# Altium schematic symbol library Devindia_v2.0.SchLib: 109 symbols
Pins are listed as number, name and electrical type; pins without a type are passive.

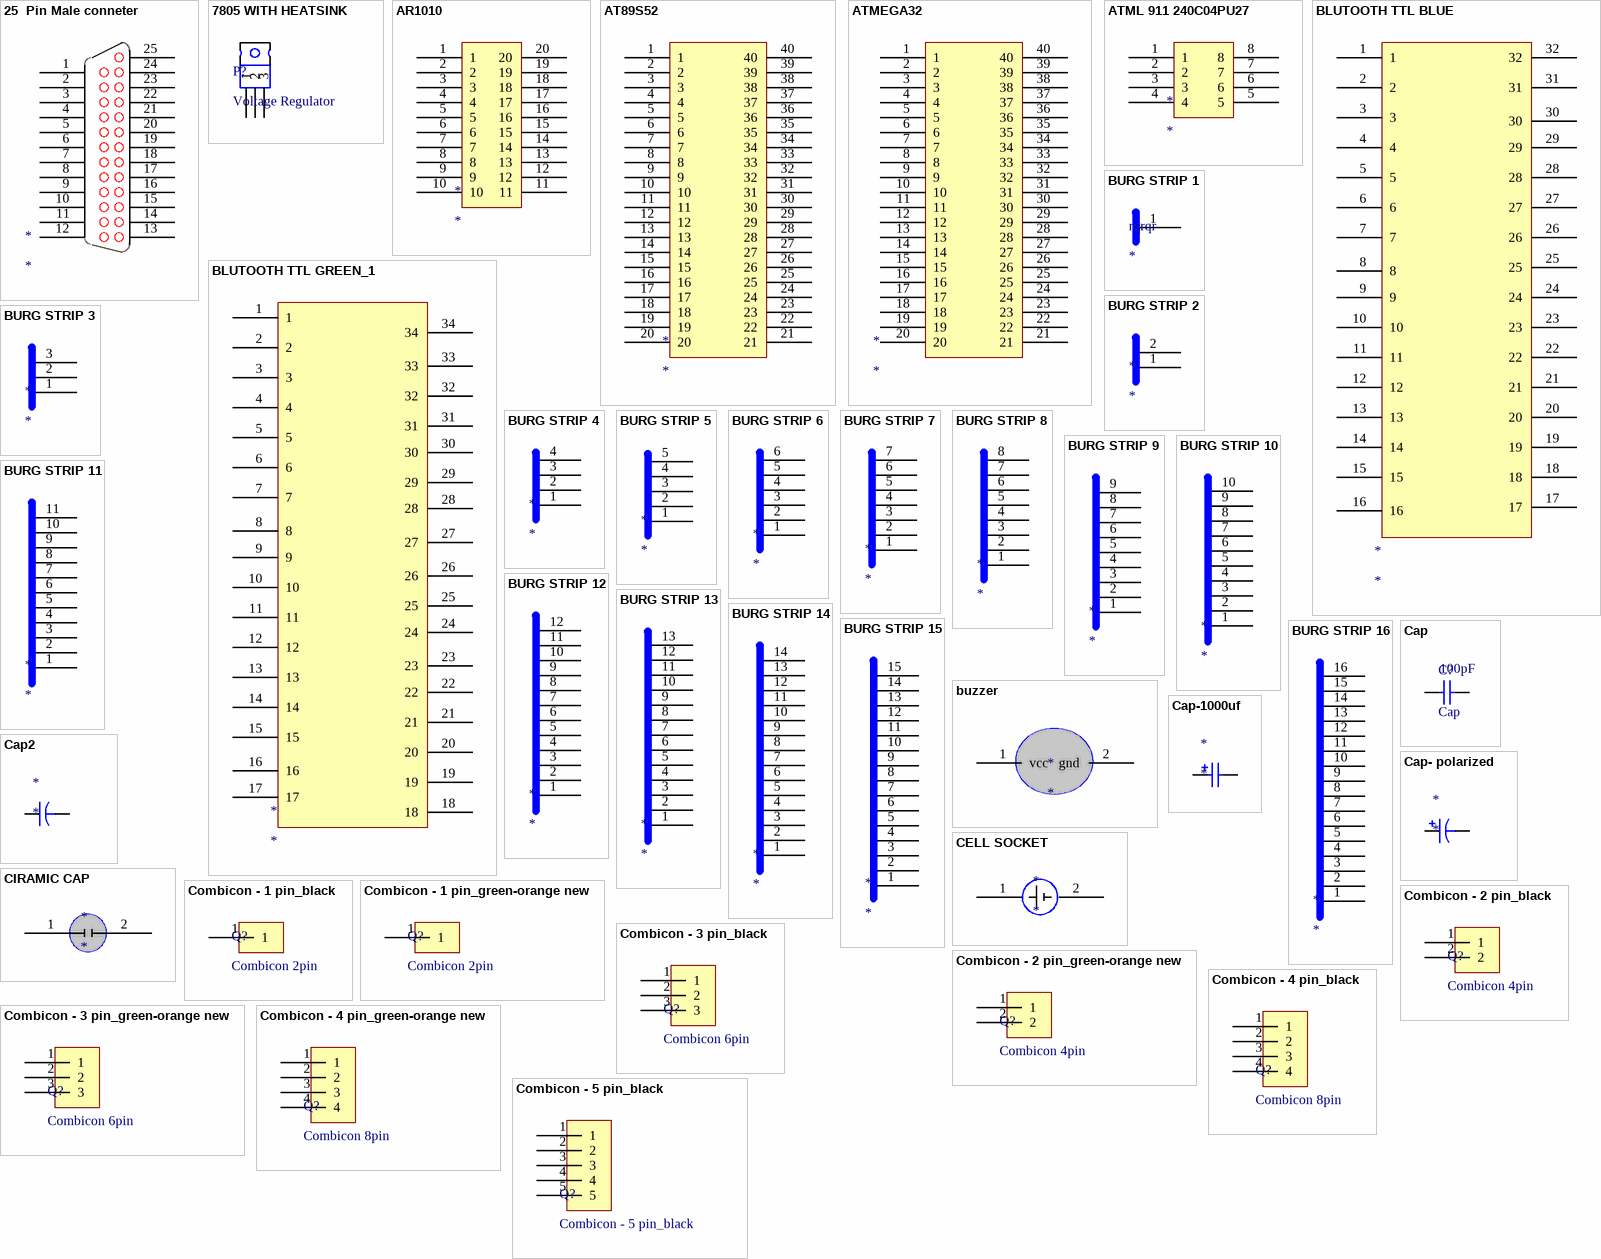
[diagram p0: symbols 25  Pin Male conneter to Combicon - 5 pin_black]

## 25  Pin Male conneter
designator *
pins: 1, 2, 3, 4, 5, 6, 7, 8, 9, 10, 11, 12, 13, 14, 15, 16, 17, 18, 19, 20, 21, 22, 23, 24, 25

## 7805 WITH HEATSINK
designator P?, comment Voltage Regulator
footprint 7805 WITH HEAT-SINK
pins: 1, 2, 3

## AR1010
designator *
footprint AR1010
pins: 1, 2, 3, 4, 5, 6, 7, 8, 9, 10, 11, 12, 13, 14, 15, 16, 17, 18, 19, 20

## AT89S52
designator *
footprint AT89S52
pins: 1, 2, 3, 4, 5, 6, 7, 8, 9, 10, 11, 12, 13, 14, 15, 16, 17, 18, 19, 20, 21, 22, 23, 24, 25, 26, 27, 28, 29, 30, 31, 32, 33, 34, 35, 36, 37, 38, 39, 40

## ATMEGA32
designator *
footprint ATMEGA32
pins: 1, 2, 3, 4, 5, 6, 7, 8, 9, 10, 11, 12, 13, 14, 15, 16, 17, 18, 19, 20, 21, 22, 23, 24, 25, 26, 27, 28, 29, 30, 31, 32, 33, 34, 35, 36, 37, 38, 39, 40

## ATML 911 240C04PU27
designator *
footprint dip-8pin
pins: 1, 2, 3, 4, 5, 6, 7, 8

## BLUTOOTH TTL BLUE
designator *
footprint BLUETOOTH TTL BULE
pins: 1, 2, 3, 4, 5, 6, 7, 8, 9, 10, 11, 12, 13, 14, 15, 16, 17, 18, 19, 20, 21, 22, 23, 24, 25, 26, 27, 28, 29, 30, 31, 32

## BLUTOOTH TTL GREEN_1
designator *
footprint bluetooth ttl green
pins: 1, 2, 3, 4, 5, 6, 7, 8, 9, 10, 11, 12, 13, 14, 15, 16, 17, 18, 19, 20, 21, 22, 23, 24, 25, 26, 27, 28, 29, 30, 31, 32, 33, 34

## BURG STRIP 1
designator rqrqr
footprint BURG STRIP 1
pins: 1

## BURG STRIP 2
designator *
footprint bergstrip-2pin
pins: 1, 2

## BURG STRIP 3
designator *
footprint bergstrip-3pin
pins: 1, 2, 3

## BURG STRIP 4
designator *
footprint bergstrip-4pin
pins: 1, 2, 3, 4

## BURG STRIP 5
designator *
footprint bergstrip-5pin
pins: 1, 2, 3, 4, 5

## BURG STRIP 6
designator *
footprint bergstrip-6pin
pins: 1, 2, 3, 4, 5, 6

## BURG STRIP 7
designator *
footprint bergstrip-7pin
pins: 1, 2, 3, 4, 5, 6, 7

## BURG STRIP 8
designator *
footprint bergstrip-8pin
pins: 1, 2, 3, 4, 5, 6, 7, 8

## BURG STRIP 9
designator *
footprint bergstrip-9pin
pins: 1, 2, 3, 4, 5, 6, 7, 8, 9

## BURG STRIP 10
designator *
footprint bergstrip-10pin
pins: 1, 2, 3, 4, 5, 6, 7, 8, 9, 10

## BURG STRIP 11
designator *
footprint bergstrip-11pin
pins: 1, 2, 3, 4, 5, 6, 7, 8, 9, 10, 11

## BURG STRIP 12
designator *
footprint bergstrip-12pin
pins: 1, 2, 3, 4, 5, 6, 7, 8, 9, 10, 11, 12

## BURG STRIP 13
designator *
footprint bergstrip-13pin
pins: 1, 2, 3, 4, 5, 6, 7, 8, 9, 10, 11, 12, 13

## BURG STRIP 14
designator *
footprint bergstrip-14pin
pins: 1, 2, 3, 4, 5, 6, 7, 8, 9, 10, 11, 12, 13, 14

## BURG STRIP 15
designator *
footprint bergstrip-15pin
pins: 1, 2, 3, 4, 5, 6, 7, 8, 9, 10, 11, 12, 13, 14, 15

## BURG STRIP 16
designator *
footprint bergstrip-16pin
pins: 1, 2, 3, 4, 5, 6, 7, 8, 9, 10, 11, 12, 13, 14, 15, 16

## buzzer
designator *
footprint buzzer
pins: 1 vcc, 2 gnd

## Cap
designator C?  value 100pF
Capacitor; Published: 8-Jun-2000; LatestRevisionDate: 17-Jul-2002; LatestRevisionNote: Re-released for DXP Platform.; PackageReference: RAD-0.3; Publisher: Altium Limited
simulation model CAP (Capacitor)
signal-integrity model Cap
footprint CAP
pins: 1, 2

## Cap2
designator *
footprint CAP-100uf
pins: 1, 2

## Cap-1000uf
designator *
footprint CAP-1000uf
pins: 1, 2

## Cap- polarized
designator *
footprint CAP-ELECTROLITE
pins: 1, 2

## CELL SOCKET
designator *
footprint CELL SOCKET
pins: 1, 2

## CIRAMIC CAP
designator *
footprint ciramic cap
pins: 1, 2

## Combicon - 1 pin_black
designator Q?, comment Combicon 2pin
footprint combicon-1pin_black
pins: 1

## Combicon - 1 pin_green-orange new
designator Q?, comment Combicon 2pin
footprint Combicon - 1 pin_green-orange
pins: 1

## Combicon - 2 pin_black
designator Q?, comment Combicon 4pin
footprint combicon-2pin_black
pins: 1, 2

## Combicon - 2 pin_green-orange new
designator Q?, comment Combicon 4pin
footprint Combicon - 2 pin_green-orange
pins: 1, 2

## Combicon - 3 pin_black
designator Q?, comment Combicon 6pin
footprint combicon-3pin_black
pins: 1, 2, 3

## Combicon - 3 pin_green-orange new
designator Q?, comment Combicon 6pin
footprint Combicon - 3 pin_green-orange
pins: 1, 2, 3

## Combicon - 4 pin_black
designator Q?, comment Combicon 8pin
footprint combicon-4pin_black
pins: 1, 2, 3, 4

## Combicon - 4 pin_green-orange new
designator Q?, comment Combicon 8pin
footprint Combicon - 4 pin_green-orange
pins: 1, 2, 3, 4

## Combicon - 5 pin_black
designator Q?
footprint combicon-5pin_black
pins: 1, 2, 3, 4, 5

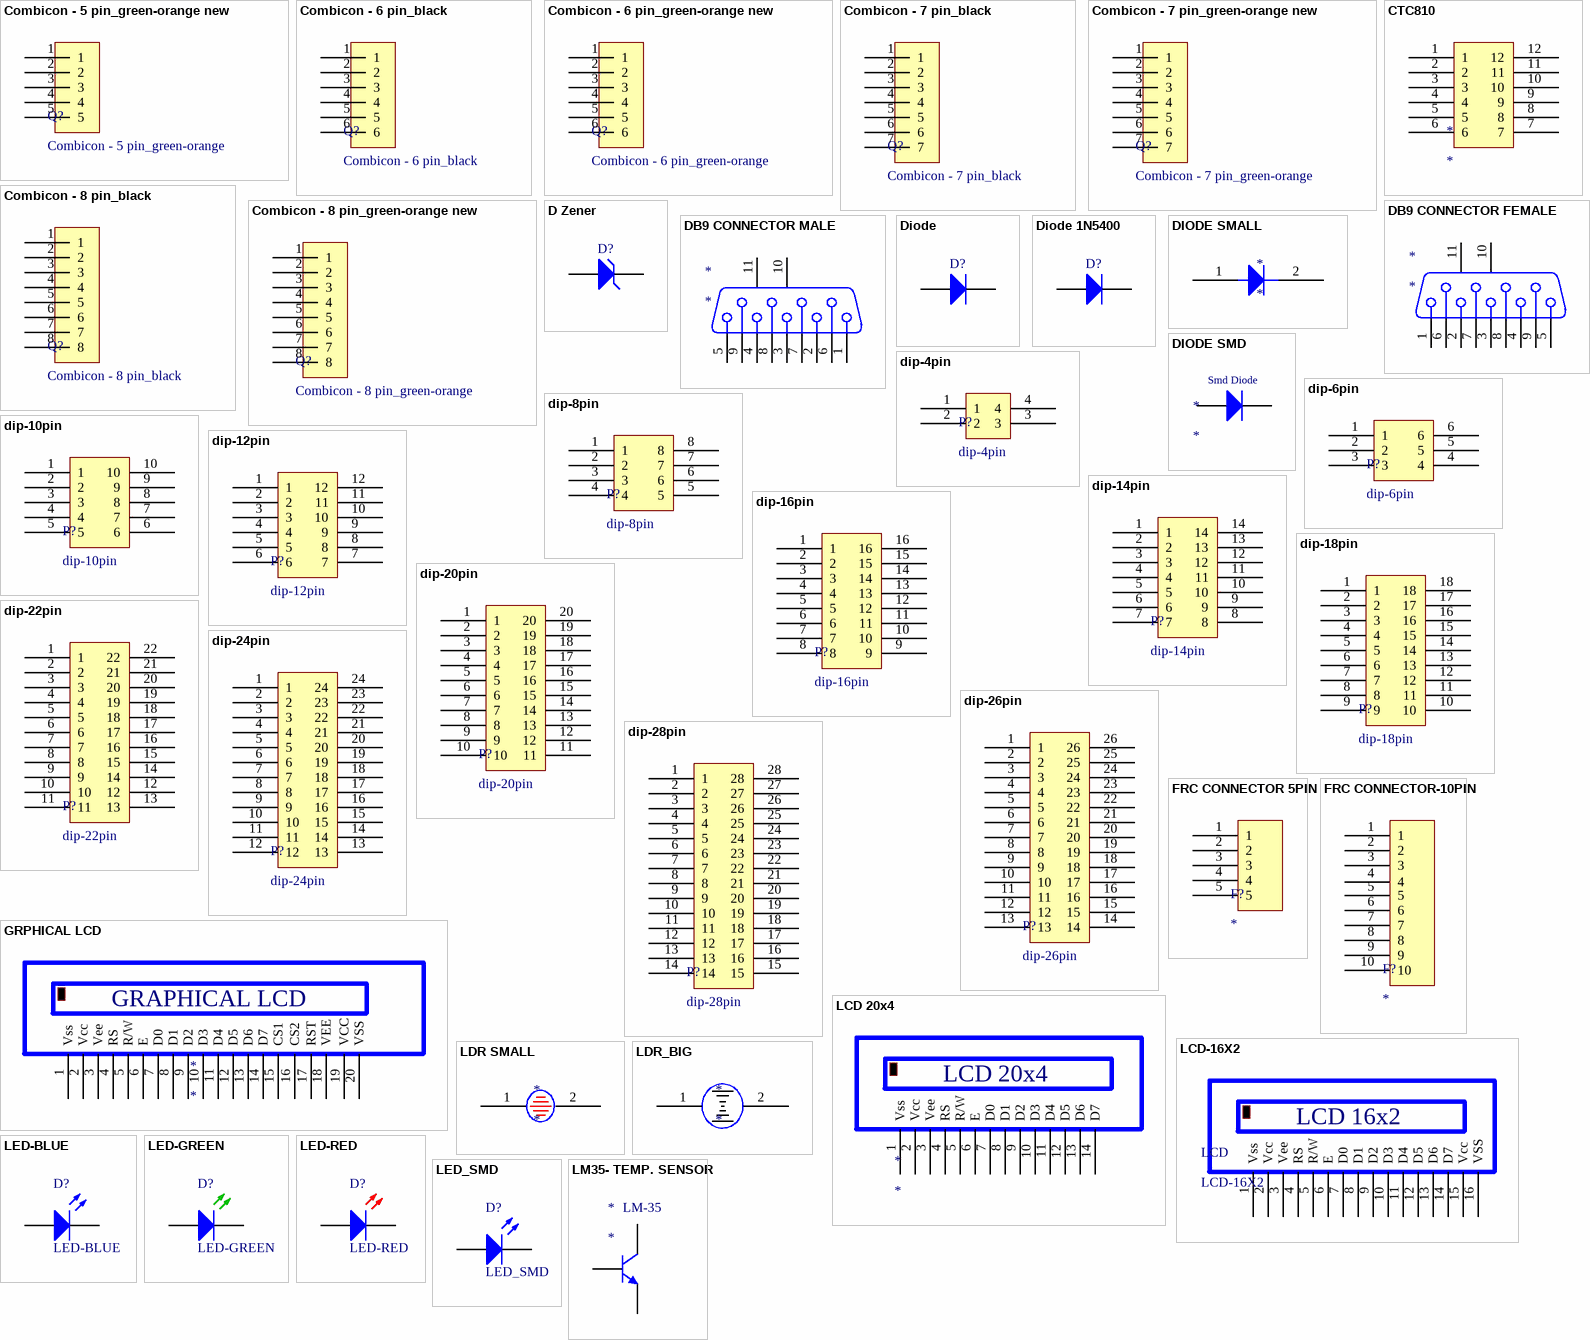
[diagram p1: symbols Combicon - 5 pin_green-orange new to LM35- TEMP. SENSOR]

## Combicon - 5 pin_green-orange new
designator Q?, comment Combicon - 5 pin_green-orange
footprint Combicon - 5 pin_green-orange
pins: 1, 2, 3, 4, 5

## Combicon - 6 pin_black
designator Q?
footprint combicon-6pin_black
pins: 1, 2, 3, 4, 5, 6

## Combicon - 6 pin_green-orange new
designator Q?, comment Combicon - 6 pin_green-orange
footprint Combicon - 6 pin_green-orange
pins: 1, 2, 3, 4, 5, 6

## Combicon - 7 pin_black
designator Q?
footprint combicon-7pin_black
pins: 1, 2, 3, 4, 5, 6, 7

## Combicon - 7 pin_green-orange new
designator Q?, comment Combicon - 7 pin_green-orange
footprint Combicon - 7 pin_green-orange
pins: 1, 2, 3, 4, 5, 6, 7

## Combicon - 8 pin_black
designator Q?
footprint combicon-8pin_black
pins: 1, 2, 3, 4, 5, 6, 7, 8

## Combicon - 8 pin_green-orange new
designator Q?, comment Combicon - 8 pin_green-orange
footprint Combicon - 8 pin_green-orange
pins: 1, 2, 3, 4, 5, 6, 7, 8

## CTC810
designator *
footprint dip-12pin
pins: 1, 2, 3, 4, 5, 6, 7, 8, 9, 10, 11, 12

## D Zener
designator D?
Zener Diode; Published: 8-Jun-2000; LatestRevisionDate: 17-Jul-2002; LatestRevisionNote: Re-released for DXP Platform.; PackageReference: DIODE-0.7; Publisher: Altium Limited
footprint D Zener
pins: 1 A, 2 K

## DB9 CONNECTOR FEMALE
designator *
footprint DB9 CONNECTOR FEMALE
pins: 1, 2, 3, 4, 5, 6, 7, 8, 9, 10 MH1, 11 MH2

## DB9 CONNECTOR MALE
designator *
footprint DB9 CONNECTOR MALE
pins: 1, 2, 3, 4, 5, 6, 7, 8, 9, 10 MH1, 11 MH2

## Diode
designator D?
Default Diode; Published: 8-Jun-2000; LatestRevisionDate: 17-Jul-2002; LatestRevisionNote: Re-released for DXP Platform.; PackageVersion: Sep-1996; PackageReference: SMC; Publisher: Altium Limited; Code_JEDEC: DO-214-AB
footprint DIODE
pins: 1 A, 2 K

## Diode 1N5400
designator D?
3 Amp General Purpose Rectifier; Published: 8-Jun-2000; LatestRevisionDate: 17-Jul-2002; LatestRevisionNote: Re-released for DXP Platform.; DatasheetVersion: 1998; PackageVersion: Aug-1999; PackageReference: DO-201AD; Publisher: Altium Limited; ComponentLink1Description: Manufacturer Link; ComponentLink1URL: http://www.fairchildsemi.com/; ComponentLink2Description: Datasheet; ComponentLink2URL: http://www.fairchildsemi.com/ds/1N%2F1N5400.pdf
simulation model 1N5400 (DIODE)
signal-integrity model 1N5400
footprint diode small
pins: 1 A, 2 K

## DIODE SMALL
designator *
footprint diode small
pins: 1, 2 1

## DIODE SMD
designator *
footprint DIODE SMD
pins: 1 A, 2 K
text: Smd Diode

## dip-4pin
designator P?
footprint dip-4pin
pins: 1, 2, 3, 4

## dip-6pin
designator P?
footprint dip-6pin
pins: 1, 2, 3, 4, 5, 6

## dip-8pin
designator P?
footprint dip-8pin
pins: 1, 2, 3, 4, 5, 6, 7, 8

## dip-10pin
designator P?
footprint dip-10pin
pins: 1, 2, 3, 4, 5, 6, 7, 8, 9, 10

## dip-12pin
designator P?
footprint dip-12pin
pins: 1, 2, 3, 4, 5, 6, 7, 8, 9, 10, 11, 12

## dip-14pin
designator P?
footprint dip-14pin
pins: 1, 2, 3, 4, 5, 6, 7, 8, 9, 10, 11, 12, 13, 14

## dip-16pin
designator P?
footprint dip-16pin
pins: 1, 2, 3, 4, 5, 6, 7, 8, 9, 10, 11, 12, 13, 14, 15, 16

## dip-18pin
designator P?
footprint dip-18pin
pins: 1, 2, 3, 4, 5, 6, 7, 8, 9, 10, 11, 12, 13, 14, 15, 16, 17, 18

## dip-20pin
designator P?
footprint dip-20pin
pins: 1, 2, 3, 4, 5, 6, 7, 8, 9, 10, 11, 12, 13, 14, 15, 16, 17, 18, 19, 20

## dip-22pin
designator P?
footprint dip-22pin
pins: 1, 2, 3, 4, 5, 6, 7, 8, 9, 10, 11, 12, 13, 14, 15, 16, 17, 18, 19, 20, 21, 22

## dip-24pin
designator P?
footprint dip-24pin
pins: 1, 2, 3, 4, 5, 6, 7, 8, 9, 10, 11, 12, 13, 14, 15, 16, 17, 18, 19, 20, 21, 22, 23, 24

## dip-26pin
designator P?
footprint dip-26pin
pins: 1, 2, 3, 4, 5, 6, 7, 8, 9, 10, 11, 12, 13, 14, 15, 16, 17, 18, 19, 20, 21, 22, 23, 24, 25, 26

## dip-28pin
designator P?
footprint dip-28pin
pins: 1, 2, 3, 4, 5, 6, 7, 8, 9, 10, 11, 12, 13, 14, 15, 16, 17, 18, 19, 20, 21, 22, 23, 24, 25, 26, 27, 28

## FRC CONNECTOR 5PIN
designator F?
footprint frc-5_con
pins: 1, 2, 3, 4, 5

## FRC CONNECTOR-10PIN
designator F?
footprint frc_10con
pins: 1, 2, 3, 4, 5, 6, 7, 8, 9, 10

## GRPHICAL LCD
designator *
footprint graphical_lcd
pins: 1 Vss, 2 Vcc, 3 Vee, 4 RS, 5 R/W, 6 E, 7 D0, 8 D1, 9 D2, 10 D3, 11 D4, 12 D5, 13 D6, 14 D7, 15 CS1, 16 CS2, 17 RST, 18 VEE, 19 VCC, 20 VSS
text: GRAPHICAL LCD

## LCD 20x4
designator *
footprint lcd 20X4
pins: 1 Vss, 2 Vcc, 3 Vee, 4 RS, 5 R/W, 6 E, 7 D0, 8 D1, 9 D2, 10 D3, 11 D4, 12 D5, 13 D6, 14 D7

## LCD-16X2
designator LCD
footprint LCD-16x2
pins: 1 Vss, 2 Vcc, 3 Vee, 4 RS, 5 R/W, 6 E, 7 D0, 8 D1, 9 D2, 10 D3, 11 D4, 12 D5, 13 D6, 14 D7, 15 Vcc, 16 VSS
text: LCD 16x2

## LDR SMALL
designator *
footprint LDR-SMALL
pins: 1, 2

## LDR_BIG
designator *
footprint LDR-BIG
pins: 1, 2

## LED-BLUE
designator D?
Typical BLUE SiC LED; Published: 8-Jun-2000; LatestRevisionDate: 17-Dec-2003; LatestRevisionNote: PCB Footprint replaced.; DatasheetVersion: 16-Apr-2002; PackageVersion: 16-Apr-2002; PackageReference: 3.5X2.8X1.9; Publisher: Altium Limited
simulation model LED3 (Diode)
signal-integrity model LED
footprint LED-BLUE
pins: 1 A, 2 K

## LED-GREEN
designator D?
Typical RED GaAs LED; Published: 8-Jun-2000; LatestRevisionDate: 08-Jul-2005; LatestRevisionNote: Mech Layer 1 removed.; PackageReference: LED-1; Publisher: Altium Limited
simulation model LED1 (Diode)
footprint LED-GREEN
pins: 1 A, 2 K

## LED-RED
designator D?
Typical BLUE SiC LED; Published: 8-Jun-2000; LatestRevisionDate: 17-Dec-2003; LatestRevisionNote: PCB Footprint replaced.; DatasheetVersion: 16-Apr-2002; PackageVersion: 16-Apr-2002; PackageReference: 3.5X2.8X1.9; Publisher: Altium Limited
simulation model LED3 (Diode)
signal-integrity model LED
footprint LED-RED
pins: 1 A, 2 K

## LED_SMD
designator D?
Typical BLUE SiC LED; Published: 8-Jun-2000; LatestRevisionDate: 17-Dec-2003; LatestRevisionNote: PCB Footprint replaced.; DatasheetVersion: 16-Apr-2002; PackageVersion: 16-Apr-2002; PackageReference: 3.5X2.8X1.9; Publisher: Altium Limited
simulation model LED3 (Diode)
signal-integrity model LED
footprint LED-SMD
pins: 1 A, 2 K

## LM35- TEMP. SENSOR
designator *
footprint LM35_TEMP SENSOR
pins: 1 E, 2 B, 3 C
text: LM-35

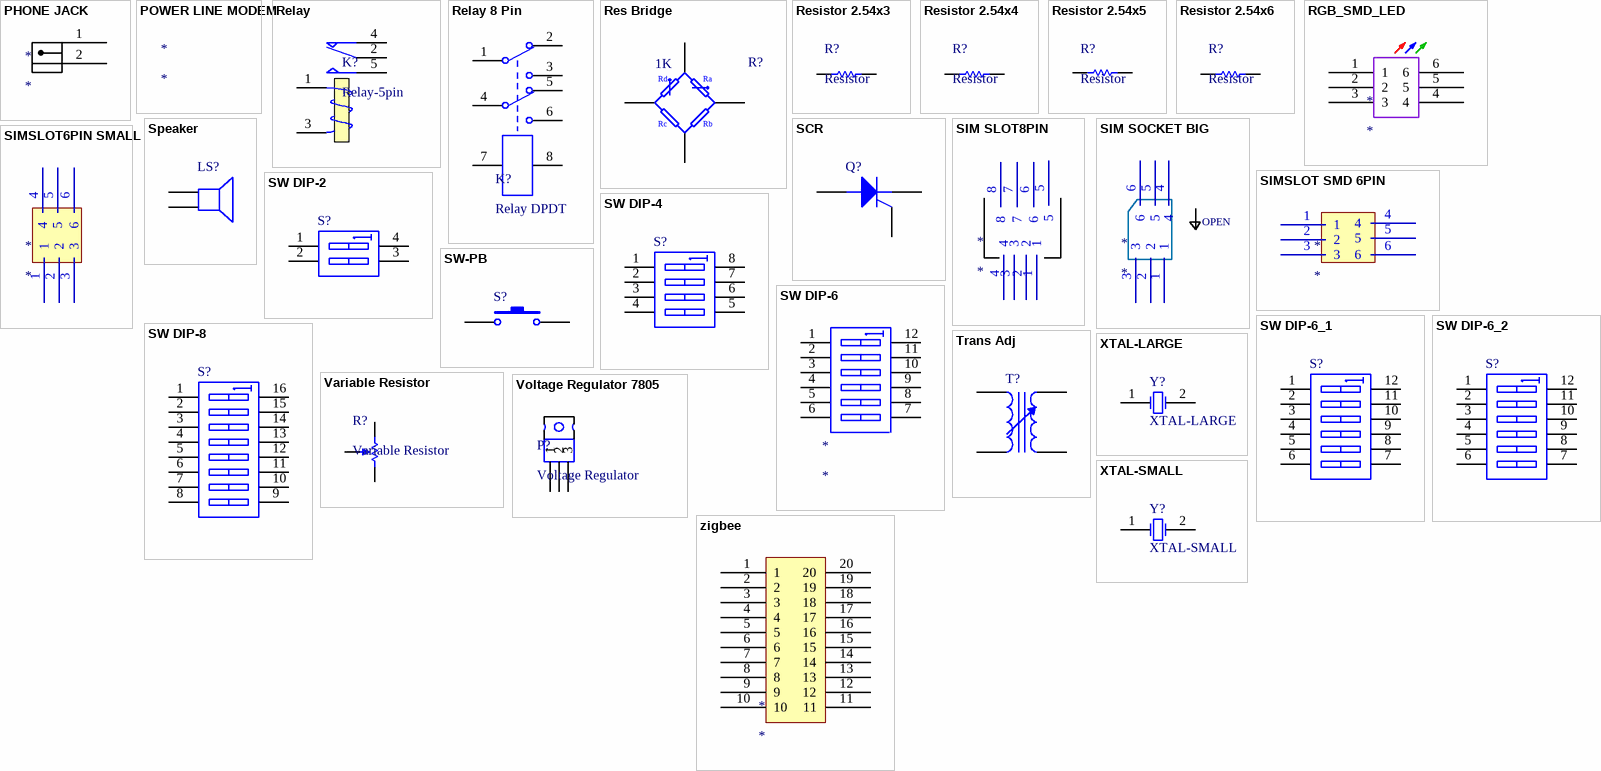
[diagram p2: symbols PHONE JACK to zigbee]

## PHONE JACK
designator *
footprint PHONE JACK
pins: 1, 2

## POWER LINE MODEM
designator *
footprint Model Name (Model Description)

## Relay
designator K?, comment Relay-5pin
footprint relay-5pin
pins: 1, 2 COM, 3, 4 NC, 5 NO

## Relay 8 Pin
designator K?, comment Relay DPDT
footprint relay-8pin
pins: 1, 2, 3, 4, 5, 6, 7, 8

## Res Bridge
designator R?  value 1K
Resistor Bridge; Published: 24-Mar-1999; LatestRevisionDate: 17-Jul-2002; LatestRevisionNote: Re-released for DXP Platform.; PackageReference: P04A; Publisher: Altium Limited
signal-integrity model Res Bridge
footprint res bridge
pins: 1, 2, 3, 4
text: Rd; Ra; Rc; Rb

## Resistor 2.54x3
designator R?, comment Resistor
footprint res- 2.54x3
pins: 1, 2

## Resistor 2.54x4
designator R?, comment Resistor
footprint res-2.54x4
pins: 1, 2

## Resistor 2.54x5
designator R?, comment Resistor
footprint res-2.54x5
pins: 1, 2

## Resistor 2.54x6
designator R?, comment Resistor
footprint res-2.54x6
pins: 1, 2

## RGB_SMD_LED
designator *
footprint RGB_SMD_LED
pins: 1, 2, 3, 4, 5, 6

## SCR
designator Q?
Silicon Controlled Rectifier; Published: 8-Jun-2000; LatestRevisionDate: 17-Jul-2002; LatestRevisionNote: Re-released for DXP Platform.; PackageReference: TO-220-AB; Publisher: Altium Limited; Code_JEDEC: TO-220-AB
footprint SFM-T3/E10.7V (TO, Thru-Hole, Vertical, Heatsink Mounted; 3 In-Line Leads; Pitch 2.54 mm)
simulation model SCR (Spice Subcircuit)
footprint Model Name (Model Description)
pins: 1 A, 2 G, 3 K

## SIM SLOT8PIN
designator *
footprint SIMSLOT-8PIN
pins: 1, 2, 3, 4, 5, 6, 7, 8

## SIM SOCKET BIG
designator *
footprint SIMSLOT-6PIN BIG
pins: 1, 2, 3, 4, 5, 6
text: OPEN

## SIMSLOT6PIN SMALL
designator *
footprint SIMSLOT-6PIN MEDIUM
pins: 1, 2, 3, 4, 5, 6

## SIMSLOT SMD 6PIN
designator *
footprint SIMSLOT-6PIN2
pins: 1, 2, 3, 4, 5, 6

## Speaker
designator LS?
Loudspeaker; Published: 24-Mar-1999; LatestRevisionDate: 17-Jul-2002; LatestRevisionNote: Re-released for DXP Platform.; PackageReference: PIN2; Publisher: Altium Limited
footprint PIN2 (Loudspeaker; 2 Leads)
pins: 1, 2

## SW DIP-2
designator S?
DIP Switch, 2 Position, SPST; Published: 24-Mar-1999; LatestRevisionDate: 17-Jul-2002; LatestRevisionNote: Re-released for DXP Platform.; PackageReference: DIP-4; Publisher: Altium Limited
simulation model dpsw2 (Spice Subcircuit)
footprint SW-2PIN
pins: 1 A1, 2 A2, 3 B2, 4 B1

## SW DIP-4
designator S?
DIP Switch, 4 Position, SPST; Published: 24-Mar-1999; LatestRevisionDate: 29-May-2009; LatestRevisionNote: IPC-7351 Footprint Added.; PackageVersion: Dec-2002; PackageReference: SO8; Publisher: Altium Limited; PackageDescription: 8-Pin Small Outline Integrated Circuit 1.27 mm Pitch; Code_JEDEC: MS-012-AA; Code_IPC: SOIC127P600-8
simulation model dpsw4 (Spice Subcircuit)
footprint SW-4PIN
pins: 1 A1, 2 A2, 3 A3, 4 A4, 5 B4, 6 B3, 7 B2, 8 B1

## SW DIP-6
designator *
footprint sw-6pin
pins: 1 A1, 2 A2, 3 A3, 4 A4, 5 A5, 6 A6, 7 B6, 8 B5, 9 B4, 10 B3, 11 B2, 12 B1

## SW DIP-6_1
designator S?
DIP Switch, 6 Position, SPST; Published: 24-Mar-1999; LatestRevisionDate: 17-Jul-2002; LatestRevisionNote: Re-released for DXP Platform.; PackageReference: DIP-12/SW; Publisher: Altium Limited
footprint DIP-12/SW (DIP Switch; 12 Leads)
simulation model dpsw6 (Spice Subcircuit)
footprint Model Name (Model Description)
pins: 1 A1, 2 A2, 3 A3, 4 A4, 5 A5, 6 A6, 7 B6, 8 B5, 9 B4, 10 B3, 11 B2, 12 B1

## SW DIP-6_2
designator S?
DIP Switch, 6 Position, SPST; Published: 24-Mar-1999; LatestRevisionDate: 17-Jul-2002; LatestRevisionNote: Re-released for DXP Platform.; PackageReference: DIP-12/SW; Publisher: Altium Limited
footprint DIP-12/SW (DIP Switch; 12 Leads)
simulation model dpsw6 (Spice Subcircuit)
pins: 1 A1, 2 A2, 3 A3, 4 A4, 5 A5, 6 A6, 7 B6, 8 B5, 9 B4, 10 B3, 11 B2, 12 B1

## SW DIP-8
designator S?
DIP Switch, 8 Position, SPST; Published: 24-Mar-1999; LatestRevisionDate: 17-Jul-2002; LatestRevisionNote: Re-released for DXP Platform.; PackageReference: DIP_SW_8WAY_SMD; Publisher: Altium Limited
simulation model dpsw8 (Spice Subcircuit)
footprint SW-8PIN
pins: 1 A1, 2 A2, 3 A3, 4 A4, 5 A5, 6 A6, 7 A7, 8 A8, 9 B8, 10 B7, 11 B6, 12 B5, 13 B4, 14 B3, 15 B2, 16 B1

## SW-PB
designator S?
Switch; Published: 24-Mar-1999; LatestRevisionDate: 17-Jul-2002; LatestRevisionNote: Re-released for DXP Platform.; PackageReference: SPST-2; Publisher: Altium Limited
footprint sw-pb
pins: 1, 2

## Trans Adj
designator T?
Variable Transformer; Published: 24-Mar-1999; LatestRevisionDate: 17-Jul-2002; LatestRevisionNote: Re-released for DXP Platform.; PackageReference: TRF_4; Publisher: Altium Limited
footprint TRF_4 (Variable Transformer; 4 Leads)
simulation model TRANSFORMER (Transformer)
footprint Model Name (Model Description)
pins: 1, 2, 3, 4

## Variable Resistor
designator R?
footprint reg-variable
pins: 1 TOP, 2 BOT, 3 TAP

## Voltage Regulator 7805
designator P?, comment Voltage Regulator
footprint 780X
pins: 1, 2, 3

## XTAL-LARGE
designator Y?
Crystal Oscillator; Published: 8-Jun-2000; LatestRevisionDate: 17-Jul-2002; LatestRevisionNote: Re-released for DXP Platform.; PackageReference: R38; Publisher: Altium Limited
footprint XTAL-LARGE
pins: 1 OSC1, 2 OSC2

## XTAL-SMALL
designator Y?
Crystal Oscillator; Published: 8-Jun-2000; LatestRevisionDate: 17-Jul-2002; LatestRevisionNote: Re-released for DXP Platform.; PackageReference: R38; Publisher: Altium Limited
footprint XTAL-SMALL
pins: 1 OSC1, 2 OSC2

## zigbee
designator *
footprint zigbee
pins: 1, 2, 3, 4, 5, 6, 7, 8, 9, 10, 11, 12, 13, 14, 15, 16, 17, 18, 19, 20